# EAGLE library part MMA7660FC (library HyperTriangle)
Board Mount Accelerometers 3-Axis Digital Out Accelerometer 6-bit Data Sheet <http://www.freescale.com/files/sensors/doc/data_sheet/MMA7660FC.pdf>
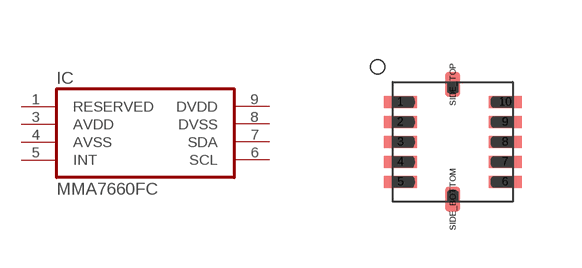
[diagram p1: symbol with the pads of DFN-10; footprint DFN-10]

Designator prefix IC

## MMA7660FC  [DFN-10]
1  RESERVED  pwr
3  AVDD  pwr
4  AVSS  pwr
5  INT
6  SCL
7  SDA
8  DVSS  pwr
9  DVDD  pwr

## Footprint DFN-10 (pad centres in mm)
Small smt package generally used for accelerometers. IMPORTANT: Signal trace near package: 0.15mm width and minimum 0.5mm length are recommended. Wider trace can be continued after this point. Package Outline Information <www.orient-chip.com/upload/Package/DFN10.pdf>
smd 0.825 x 0.3: 1 -1.312,1; 2 -1.312,0.5; 3 -1.312,0; 4 -1.312,-0.5; 5 -1.312,-1; 6 1.312,-1; 7 1.312,-0.5; 8 1.312,0; 9 1.312,0.5; 10 1.312,1
smd 0.375 x 0.625: SIDE_BOTTOM 0,-1.438; SIDE_TOP 0,1.438